# Altium footprint library 3303x.PcbLib: 1 footprints
Each footprint in its own frame and in the unit in brackets; x right, y up, seen from the top. Pads: shape width x height; smd on the part's side, far side on the other; paste and mask are expansions set on the pad; w line width, h text height; cw(c..) or ccw(c..) is an arc to the next point about the centre after c.
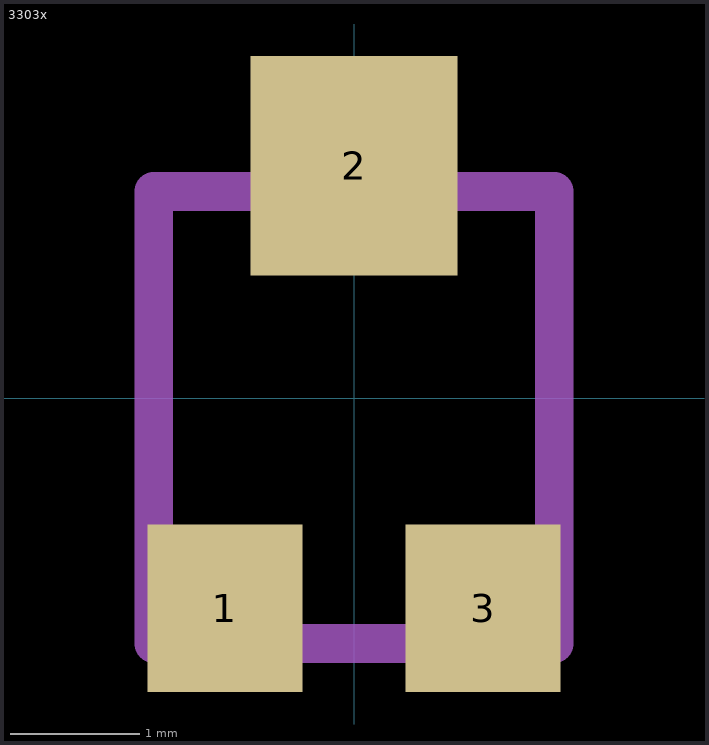
[diagram p0: the footprint, top view; thin cyan lines are the x and y axes]

## 3303x [mm]
pads (3):
  rect 1.2x1.3 smd: 1(-1,-1.627) 3(1,-1.627)
  rect 1.6x1.7 smd: 2(0,1.8)
Mechanical 13:
  lines w0.3: -1.55,-1.9 1.55,-1.9 1.55,1.6 -1.55,1.6 -1.55,-1.9
  text ".Designator" at -0.889,-0.254 h1.5
3D body: height 1.6, standoff 0, extent -1.549,-1.899 1.549,1.599